# EAGLE library part DRV8825 (library untitled)
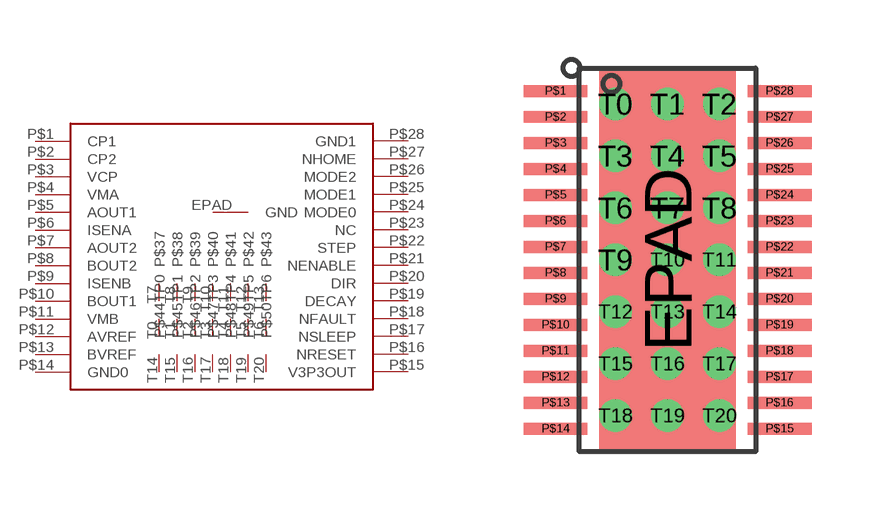
[diagram p19: symbol with the pads of ETSSOP28; footprint ETSSOP28]

Designator prefix -

## DRV8825  [ETSSOP28]
EPAD  GND
P$1  CP1
P$2  CP2
P$3  VCP
P$4  VMA
P$5  AOUT1
P$6  ISENA
P$7  AOUT2
P$8  BOUT2
P$9  ISENB
P$10  BOUT1
P$11  VMB
P$12  AVREF
P$13  BVREF
P$14  GND0
P$15  V3P3OUT
P$16  NRESET
P$17  NSLEEP
P$18  NFAULT
P$19  DECAY
P$20  DIR
P$21  NENABLE
P$22  STEP
P$23  NC
P$24  MODE0
P$25  MODE1
P$26  MODE2
P$27  NHOME
P$28  GND1
T0  TP0
T1  TP1
T2  TP2
T3  TP3
T4  TP4
T5  TP5
T6  TP6
T7  P$37
T8  P$38
T9  P$39
T10  P$40
T11  P$41
T12  P$42
T13  P$43
T14  P$44
T15  P$45
T16  P$46
T17  P$47
T18  P$48
T19  P$49
T20  P$50

## Footprint ETSSOP28 (pad centres in mm)
smd 3.4 x 9.7: EPAD 0,0
smd 1.6 x 0.3: P$1 -2.8,4.225; P$2 -2.8,3.575; P$3 -2.8,2.925; P$4 -2.8,2.275; P$5 -2.8,1.625; P$6 -2.8,0.975; P$7 -2.8,0.325; P$8 -2.8,-0.325; P$9 -2.8,-0.975; P$10 -2.8,-1.625; P$11 -2.8,-2.275; P$12 -2.8,-2.925; P$13 -2.8,-3.575; P$14 -2.8,-4.225; P$15 2.8,-4.225; P$16 2.8,-3.575; P$17 2.8,-2.925; P$18 2.8,-2.275; P$19 2.8,-1.625; P$20 2.8,-0.975; P$21 2.8,-0.325; P$22 2.8,0.325; P$23 2.8,0.975; P$24 2.8,1.625; P$25 2.8,2.275; P$26 2.8,2.925; P$27 2.8,3.575; P$28 2.8,4.225
drill 0.3 pad 0.61 round: T0 -1.3,3.9; T1 0,3.9; T2 1.3,3.9; T3 -1.3,2.6; T4 0,2.6; T5 1.3,2.6; T6 -1.3,1.3; T7 0,1.3; T8 1.3,1.3; T9 -1.3,0; T10 0,0; T11 1.3,0; T12 -1.3,-1.3; T13 0,-1.3; T14 1.3,-1.3; T15 -1.3,-2.6; T16 0,-2.6; T17 1.3,-2.6; T18 -1.3,-3.9; T19 0,-3.9; T20 1.3,-3.9